# Altium integrated library 1N4148.IntLib: 1 symbol
Pins are listed as number, name and electrical type; pins without a type are passive.

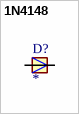
[diagram p0: symbol 1N4148]

## 1N4148
designator D?
DIODE, 1N4148 AMMO-BOX 5K; Diode Type: Small Signal; Voltage, Vrrm: 100V; Current, If AV: 150mA; Current, Ifsm: 2000A...; MF: Multicomp; SnapEDA_Link: https://www.snapeda.com/parts/1N4148/Multicomp/view-part/?ref=snap; Package: DO-204 Multicomp; Value: *; MP: 1N4148; Check_prices: https://www.snapeda.com/parts/1N4148/Multicomp/view-part/?ref=eda
footprint DO35-10
pins: A, C